# Altium footprint library DFN 0808-4.PcbLib: 1 footprints
Each footprint in its own frame and in the unit in brackets; x right, y up, seen from the top. Pads: shape width x height; smd on the part's side, far side on the other; paste and mask are expansions set on the pad; w line width, h text height; cw(c..) or ccw(c..) is an arc to the next point about the centre after c.
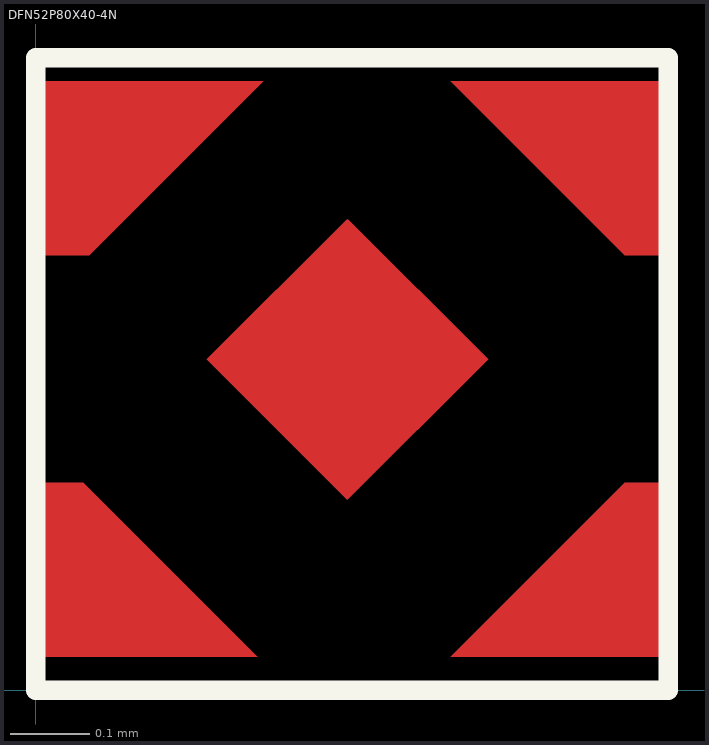
[diagram p0: the footprint, top view; thin cyan lines are the x and y axes]

## DFN52P80X40-4N [mm] "DFN, 4-Leads, Body 0.80x0.80mm, Pitch 0.52mm, IPC Medium Density"
height 0.4
Top Layer:
  region: 0.216,0.419 0.393,0.242 0.394,0.241 0.571,0.418 0.572,0.419 0.395,0.595 0.393,0.595
  region: 0.805,0.262 0.805,0.042 0.525,0.042 0.745,0.262
  region: 0,0.262 0,0.042 0.28,0.042 0.06,0.262
  region: 0.805,0.55 0.805,0.77 0.525,0.77 0.745,0.55
  region: 0.008,0.55 0.008,0.77 0.288,0.77 0.068,0.55
Top Overlay:
  lines w0.025: 0,0 0,0.8 0.8,0.8 0.8,0 0,0